# Altium schematic symbol library HeadersPin_1rows_M_90.SchLib: 40 symbols
Pins are listed as number, name and electrical type; pins without a type are passive.

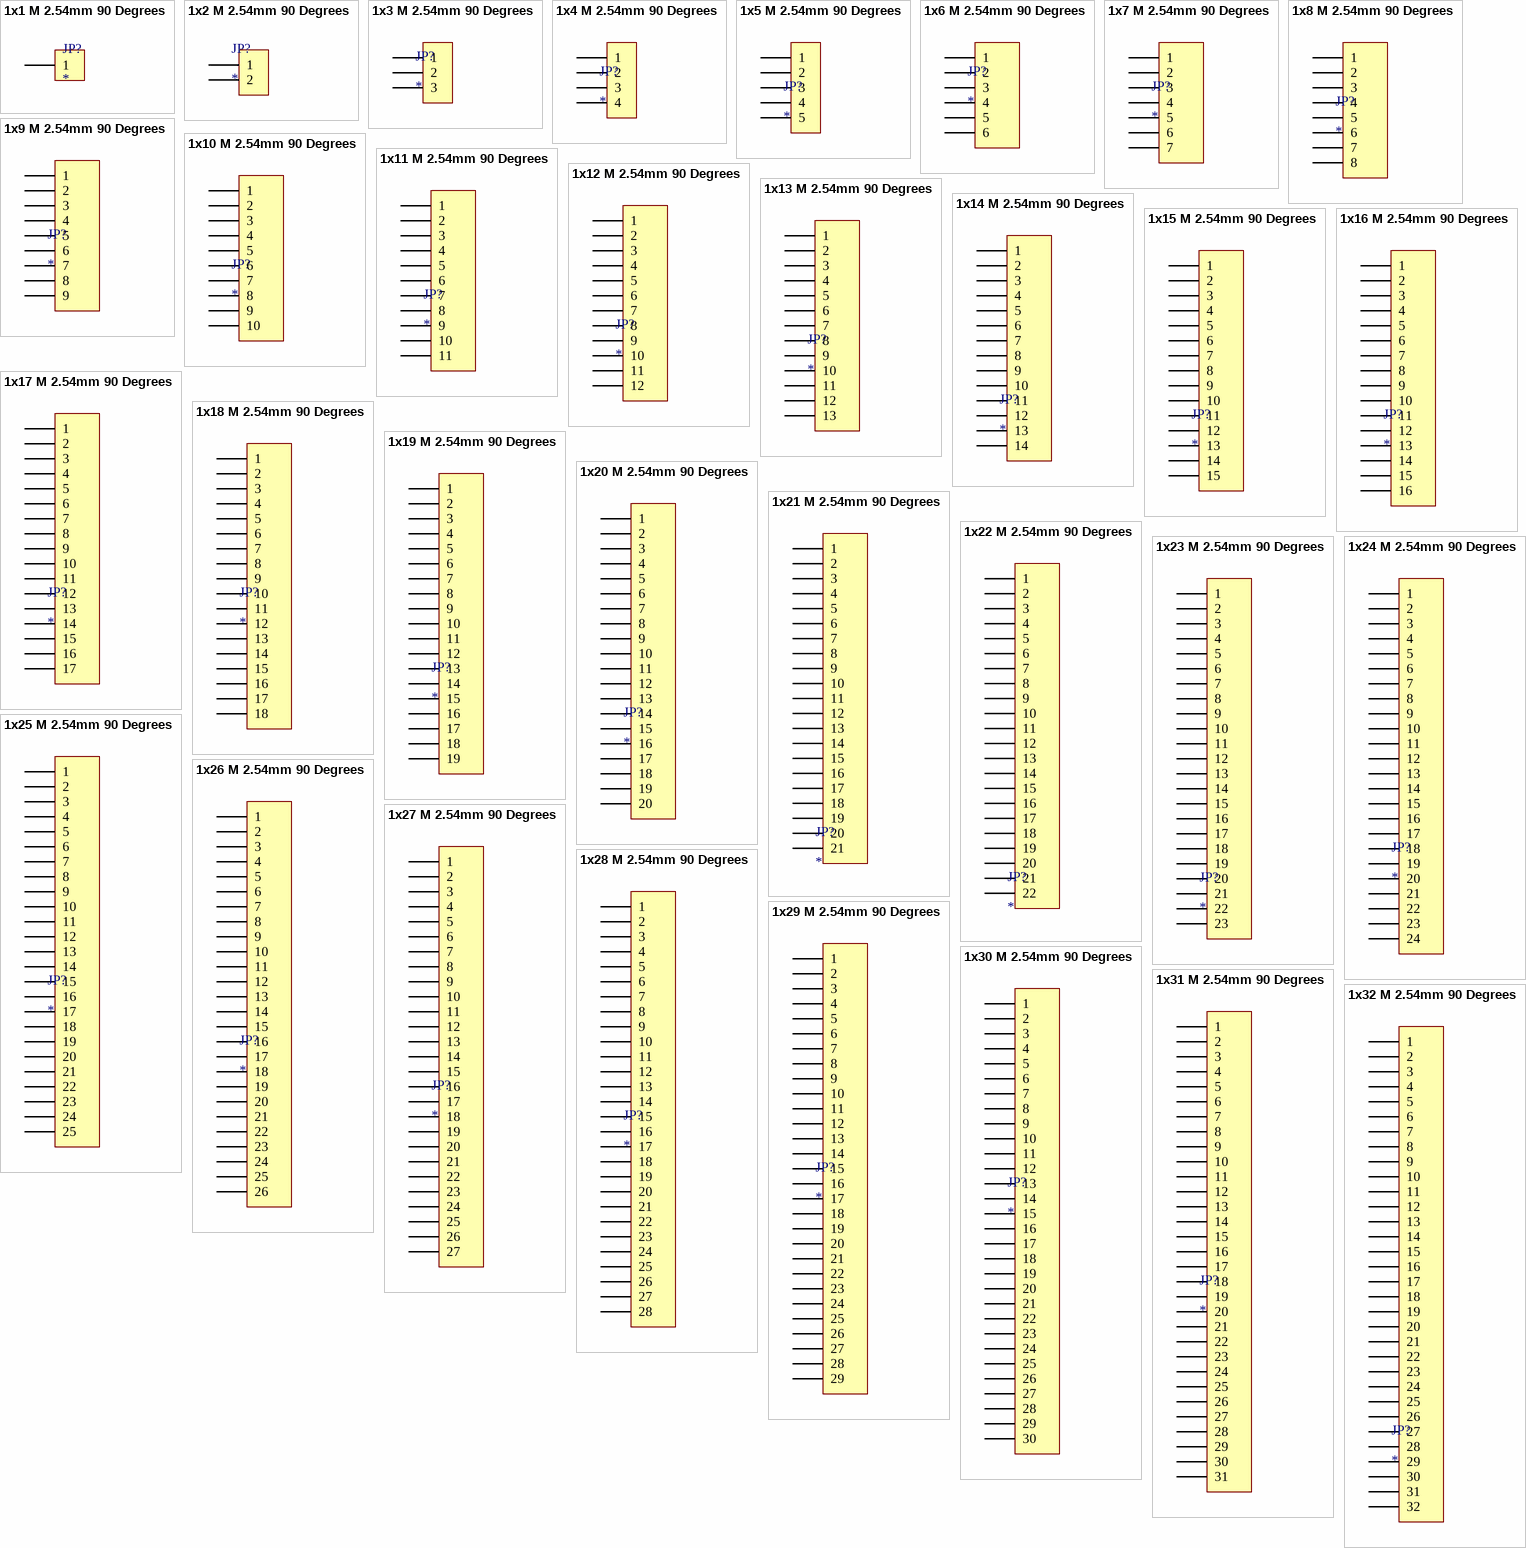
[diagram p0: symbols 1x1 M 2.54mm 90 Degrees to 1x32 M 2.54mm 90 Degrees]

## 1x1 M 2.54mm 90 Degrees
designator JP?
Designed by: ILKNUR
footprint 1X1 (M) 2.54MM 90 DEGRES
pins: 1

## 1x2 M 2.54mm 90 Degrees
designator JP?
Designed by: ILKNUR
footprint 1x2 (M) 2.54MM 90 DEGRES
pins: 1, 2

## 1x3 M 2.54mm 90 Degrees
designator JP?
Designed by: ILKNUR
footprint 1x3 (M) 2.54mm 90 Degres
pins: 1, 2, 3

## 1x4 M 2.54mm 90 Degrees
designator JP?
Designed by: ILKNUR
footprint 1X4 (M) 2.54mm 90 Degres
pins: 1, 2, 3, 4

## 1x5 M 2.54mm 90 Degrees
designator JP?
Designed by: ILKNUR
footprint 1X5 (M) 2.54MM 90 DEGRES
pins: 1, 2, 3, 4, 5

## 1x6 M 2.54mm 90 Degrees
designator JP?
Designed by: ILKNUR
footprint 1X6 (M) 2.54MM 90 DEGRES
pins: 1, 2, 3, 4, 5, 6

## 1x7 M 2.54mm 90 Degrees
designator JP?
Designed by: ILKNUR
footprint 1X7 (M) 2.54MM 90 DEGRES
pins: 1, 2, 3, 4, 5, 6, 7

## 1x8 M 2.54mm 90 Degrees
designator JP?
Designed by: ILKNUR
footprint 1X8 (M) 2.54MM 90 DEGRES
pins: 1, 2, 3, 4, 5, 6, 7, 8

## 1x9 M 2.54mm 90 Degrees
designator JP?
Designed by: ILKNUR
footprint 1X9 (M) 2.54MM 90 DEGRES
pins: 1, 2, 3, 4, 5, 6, 7, 8, 9

## 1x10 M 2.54mm 90 Degrees
designator JP?
Designed by: ILKNUR
footprint 1X10 (M) 2.54MM 90 DEGRES
pins: 1, 2, 3, 4, 5, 6, 7, 8, 9, 10

## 1x11 M 2.54mm 90 Degrees
designator JP?
Designed by: ILKNUR
footprint 1X11 (M) 2.54MM 90 DEGRES
pins: 1, 2, 3, 4, 5, 6, 7, 8, 9, 10, 11

## 1x12 M 2.54mm 90 Degrees
designator JP?
Designed by: ILKNUR
footprint 1X12 (M) 2.54MM 90 DEGRES
pins: 1, 2, 3, 4, 5, 6, 7, 8, 9, 10, 11, 12

## 1x13 M 2.54mm 90 Degrees
designator JP?
Designed by: ILKNUR
footprint 1X13 (M) 2.54MM 90 DEGRES
pins: 1, 2, 3, 4, 5, 6, 7, 8, 9, 10, 11, 12, 13

## 1x14 M 2.54mm 90 Degrees
designator JP?
Designed by: ILKNUR
footprint 1X14 (M) 2.54MM 90 DEGRES
pins: 1, 2, 3, 4, 5, 6, 7, 8, 9, 10, 11, 12, 13, 14

## 1x15 M 2.54mm 90 Degrees
designator JP?
Designed by: ILKNUR
footprint 1X15 (M) 2.54MM 90 DEGRES
pins: 1, 2, 3, 4, 5, 6, 7, 8, 9, 10, 11, 12, 13, 14, 15

## 1x16 M 2.54mm 90 Degrees
designator JP?
Designed by: ILKNUR
footprint 1X16 (M) 2.54MM 90 DEGRES
pins: 1, 2, 3, 4, 5, 6, 7, 8, 9, 10, 11, 12, 13, 14, 15, 16

## 1x17 M 2.54mm 90 Degrees
designator JP?
Designed by: ILKNUR
footprint 1X17 (M) 2.54MM 90 DEGRES
pins: 1, 2, 3, 4, 5, 6, 7, 8, 9, 10, 11, 12, 13, 14, 15, 16, 17

## 1x18 M 2.54mm 90 Degrees
designator JP?
Designed by: ILKNUR
footprint 1X18 (M) 2.54MM 90 DEGRES
pins: 1, 2, 3, 4, 5, 6, 7, 8, 9, 10, 11, 12, 13, 14, 15, 16, 17, 18

## 1x19 M 2.54mm 90 Degrees
designator JP?
Designed by: ILKNUR
footprint 1X19 (M) 2.54MM 90 DEGRES
pins: 1, 2, 3, 4, 5, 6, 7, 8, 9, 10, 11, 12, 13, 14, 15, 16, 17, 18, 19

## 1x20 M 2.54mm 90 Degrees
designator JP?
Designed by: ILKNUR
footprint 1X20 (M) 2.54MM 90 DEGRES
pins: 1, 2, 3, 4, 5, 6, 7, 8, 9, 10, 11, 12, 13, 14, 15, 16, 17, 18, 19, 20

## 1x21 M 2.54mm 90 Degrees
designator JP?
Designed by: ILKNUR
footprint 1X21 (M) 2.54MM 90 DEGRES
pins: 1, 2, 3, 4, 5, 6, 7, 8, 9, 10, 11, 12, 13, 14, 15, 16, 17, 18, 19, 20, 21

## 1x22 M 2.54mm 90 Degrees
designator JP?
Designed by: ILKNUR
footprint 1X22 (M) 2.54MM 90 DEGRES
pins: 1, 2, 3, 4, 5, 6, 7, 8, 9, 10, 11, 12, 13, 14, 15, 16, 17, 18, 19, 20, 21, 22

## 1x23 M 2.54mm 90 Degrees
designator JP?
Designed by: ILKNUR
footprint 1x23 (M) 2.54MM 90 DEGRES
pins: 1, 2, 3, 4, 5, 6, 7, 8, 9, 10, 11, 12, 13, 14, 15, 16, 17, 18, 19, 20, 21, 22, 23

## 1x24 M 2.54mm 90 Degrees
designator JP?
Designed by: ILKNUR
footprint 1X24 (M) 2.54MM 90 DEGRES
pins: 1, 2, 3, 4, 5, 6, 7, 8, 9, 10, 11, 12, 13, 14, 15, 16, 17, 18, 19, 20, 21, 22, 23, 24

## 1x25 M 2.54mm 90 Degrees
designator JP?
Designed by: ILKNUR
footprint 1X25 (M) 2.54MM 90 DEGRES
pins: 1, 2, 3, 4, 5, 6, 7, 8, 9, 10, 11, 12, 13, 14, 15, 16, 17, 18, 19, 20, 21, 22, 23, 24, 25

## 1x26 M 2.54mm 90 Degrees
designator JP?
Designed by: ILKNUR
footprint 1X26 (M) 2.54MM 90 DEGRES
pins: 1, 2, 3, 4, 5, 6, 7, 8, 9, 10, 11, 12, 13, 14, 15, 16, 17, 18, 19, 20, 21, 22, 23, 24, 25, 26

## 1x27 M 2.54mm 90 Degrees
designator JP?
Designed by: ILKNUR
footprint 1X27 (M) 2.54MM 90 DEGRES
pins: 1, 2, 3, 4, 5, 6, 7, 8, 9, 10, 11, 12, 13, 14, 15, 16, 17, 18, 19, 20, 21, 22, 23, 24, 25, 26, 27

## 1x28 M 2.54mm 90 Degrees
designator JP?
Designed by: ILKNUR
footprint 1X28 (M) 2.54MM 90 DEGRES
pins: 1, 2, 3, 4, 5, 6, 7, 8, 9, 10, 11, 12, 13, 14, 15, 16, 17, 18, 19, 20, 21, 22, 23, 24, 25, 26, 27, 28

## 1x29 M 2.54mm 90 Degrees
designator JP?
Designed by: ILKNUR
footprint 1X29 (M) 2.54MM 90 DEGRES
pins: 1, 2, 3, 4, 5, 6, 7, 8, 9, 10, 11, 12, 13, 14, 15, 16, 17, 18, 19, 20, 21, 22, 23, 24, 25, 26, 27, 28, 29

## 1x30 M 2.54mm 90 Degrees
designator JP?
Designed by: ILKNUR
footprint 1X30 (M) 2.54MM 90 DEGRES
pins: 1, 2, 3, 4, 5, 6, 7, 8, 9, 10, 11, 12, 13, 14, 15, 16, 17, 18, 19, 20, 21, 22, 23, 24, 25, 26, 27, 28, 29, 30

## 1x31 M 2.54mm 90 Degrees
designator JP?
Designed by: ILKNUR
footprint 1X31 (M) 2.54MM 90 DEGRES
pins: 1, 2, 3, 4, 5, 6, 7, 8, 9, 10, 11, 12, 13, 14, 15, 16, 17, 18, 19, 20, 21, 22, 23, 24, 25, 26, 27, 28, 29, 30, 31

## 1x32 M 2.54mm 90 Degrees
designator JP?
Designed by: ILKNUR
footprint 1X32 (M) 2.54MM 90 DEGRES
pins: 1, 2, 3, 4, 5, 6, 7, 8, 9, 10, 11, 12, 13, 14, 15, 16, 17, 18, 19, 20, 21, 22, 23, 24, 25, 26, 27, 28, 29, 30, 31, 32

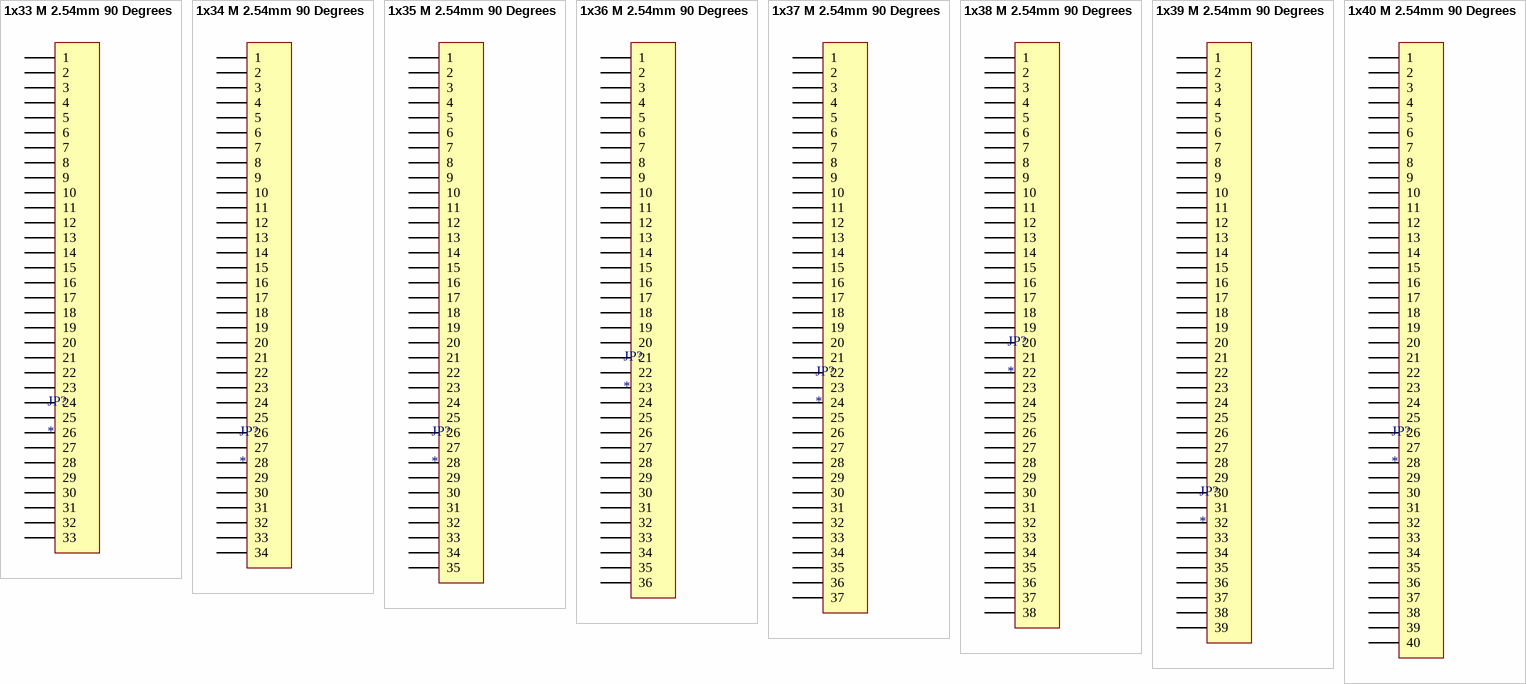
[diagram p1: symbols 1x33 M 2.54mm 90 Degrees to 1x40 M 2.54mm 90 Degrees]

## 1x33 M 2.54mm 90 Degrees
designator JP?
Designed by: ILKNUR
footprint 1X33 (M) 2.54MM 90 DEGRES
pins: 1, 2, 3, 4, 5, 6, 7, 8, 9, 10, 11, 12, 13, 14, 15, 16, 17, 18, 19, 20, 21, 22, 23, 24, 25, 26, 27, 28, 29, 30, 31, 32, 33

## 1x34 M 2.54mm 90 Degrees
designator JP?
footprint 1X34 (M) 2.54MM 90 DEGRES
pins: 1, 2, 3, 4, 5, 6, 7, 8, 9, 10, 11, 12, 13, 14, 15, 16, 17, 18, 19, 20, 21, 22, 23, 24, 25, 26, 27, 28, 29, 30, 31, 32, 33, 34

## 1x35 M 2.54mm 90 Degrees
designator JP?
Designed by: ILKNUR
footprint 1X35(M) 2.54MM 90 DEGRES
pins: 1, 2, 3, 4, 5, 6, 7, 8, 9, 10, 11, 12, 13, 14, 15, 16, 17, 18, 19, 20, 21, 22, 23, 24, 25, 26, 27, 28, 29, 30, 31, 32, 33, 34, 35

## 1x36 M 2.54mm 90 Degrees
designator JP?
Designed by: ILKNUR
footprint 1X36 (M) 2.54MM 90 DEGRES
pins: 1, 2, 3, 4, 5, 6, 7, 8, 9, 10, 11, 12, 13, 14, 15, 16, 17, 18, 19, 20, 21, 22, 23, 24, 25, 26, 27, 28, 29, 30, 31, 32, 33, 34, 35, 36

## 1x37 M 2.54mm 90 Degrees
designator JP?
Designed by: ILKNUR
footprint 1X37 (M) 2.54MM 90 DEGRES
pins: 1, 2, 3, 4, 5, 6, 7, 8, 9, 10, 11, 12, 13, 14, 15, 16, 17, 18, 19, 20, 21, 22, 23, 24, 25, 26, 27, 28, 29, 30, 31, 32, 33, 34, 35, 36, 37

## 1x38 M 2.54mm 90 Degrees
designator JP?
Designed by: ILKNUR
footprint 1X38 (M) 2.54MM 90 DEGRES
pins: 1, 2, 3, 4, 5, 6, 7, 8, 9, 10, 11, 12, 13, 14, 15, 16, 17, 18, 19, 20, 21, 22, 23, 24, 25, 26, 27, 28, 29, 30, 31, 32, 33, 34, 35, 36, 37, 38

## 1x39 M 2.54mm 90 Degrees
designator JP?
Designed by: ILKNUR
footprint 1X39 (M) 2.54MM 90 DEGRES
pins: 1, 2, 3, 4, 5, 6, 7, 8, 9, 10, 11, 12, 13, 14, 15, 16, 17, 18, 19, 20, 21, 22, 23, 24, 25, 26, 27, 28, 29, 30, 31, 32, 33, 34, 35, 36, 37, 38, 39

## 1x40 M 2.54mm 90 Degrees
designator JP?
Designed by: ILKNUR
footprint 1X40 (M) 2.54MM 90 DEGRES
pins: 1, 2, 3, 4, 5, 6, 7, 8, 9, 10, 11, 12, 13, 14, 15, 16, 17, 18, 19, 20, 21, 22, 23, 24, 25, 26, 27, 28, 29, 30, 31, 32, 33, 34, 35, 36, 37, 38, 39, 40